# Altium schematic symbol library STM32L011E3Y6TR.SchLib: 1 symbol
Pins are listed as number, name and electrical type; pins without a type are passive.

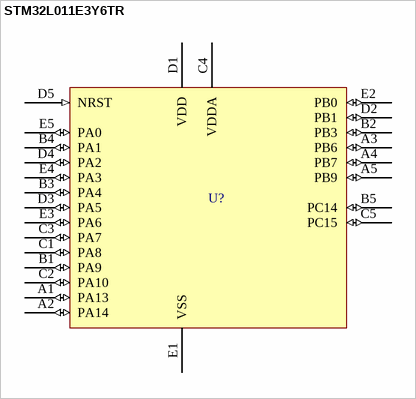
[diagram p0: symbol STM32L011E3Y6TR]

## STM32L011E3Y6TR
designator U?  (value not drawn)
Ultra-low-power ARM Cortex-M0+ MCU with 8-Kbytes Flash, 32 MHz CPU
pins: A1 PA13 (io), A2 PA14 (io), A3 PB6 (io), A4 PB7 (io), A5 PB9 (io), B1 PA9 (io), B2 PB3 (io), B3 PA4 (io), B4 PA1 (io), B5 PC14 (io), C1 PA8 (io), C2 PA10 (io), C3 PA7 (io), C4 VDDA (power), C5 PC15 (io), D1 VDD (power), D2 PB1 (io), D3 PA5 (io), D4 PA2 (io), D5 NRST (in), E1 VSS (power), E2 PB0 (io), E3 PA6 (io), E4 PA3 (io), E5 PA0 (io)